# Altium footprint library IC_Texas_Instruments_SN74HC595BRWNR_eec_IPC_B.PcbLib: 1 footprints
Each footprint in its own frame and in the unit in brackets; x right, y up, seen from the top. Pads: shape width x height; smd on the part's side, far side on the other; paste and mask are expansions set on the pad; w line width, h text height; cw(c..) or ccw(c..) is an arc to the next point about the centre after c.
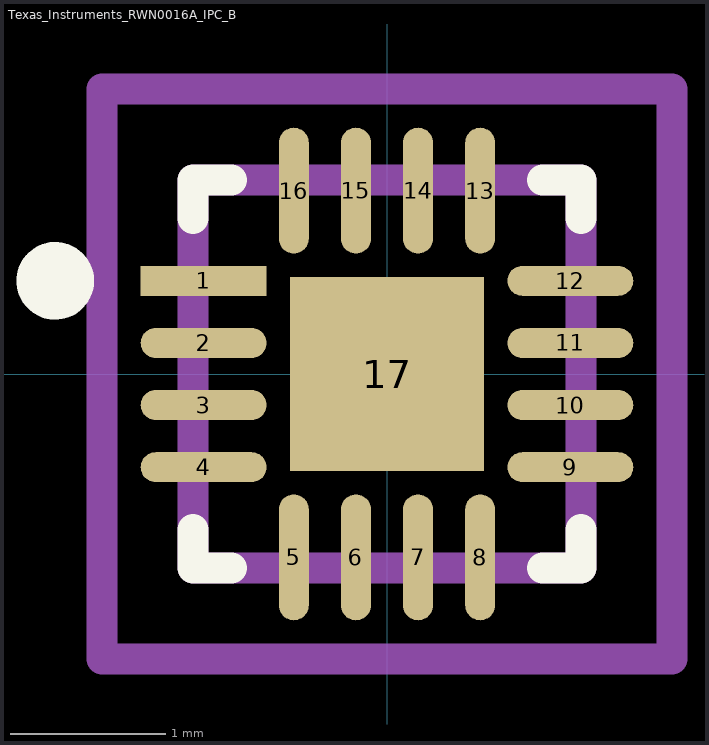
[diagram p0: the footprint, top view; thin cyan lines are the x and y axes]

## Texas_Instruments_RWN0016A_IPC_B [mm]
pads (17):
  rect 0.811x0.192 smd paste+0 mask+0: 1(-1.181,0.6)
  rrect100% 0.811x0.192 smd paste+0 mask+0: 2(-1.181,0.2) 3(-1.181,-0.2) 4(-1.181,-0.6) 9(1.181,-0.6) 10(1.181,-0.2) 11(1.181,0.2) 12(1.181,0.6)
  rrect100% 0.192x0.811 smd paste+0 mask+0: 5(-0.6,-1.181) 6(-0.2,-1.181) 7(0.2,-1.181) 8(0.6,-1.181) 13(0.6,1.181) 14(0.2,1.181) 15(-0.2,1.181) 16(-0.6,1.181)
  rect 1.25x1.25 smd paste-1000 mask+0: 17(0,0)
Top Overlay:
  circle w0.25: c-2.136,0.6 r0.125
  lines w0.2: -1.25,-1 -1.25,-1.25 -1,-1.25 ; -1.25,1 -1.25,1.25 -1,1.25 ; 1,-1.25 1.25,-1.25 1.25,-1 ; 1,1.25 1.25,1.25 1.25,1
Top Paste:
  rectangle: -0.395,-0.395 0.395,0.395
Mechanical 10:
  lines w0.2: -1.836,-1.836 1.836,-1.836 1.836,1.836 -1.836,1.836 -1.836,-1.836
  text ".Designator" at 0,0.188 h1
Mechanical 12:
  lines w0.2: -1.25,-1.25 1.25,-1.25 1.25,1.25 -1.25,1.25 -1.25,-1.25
Mechanical 15:
  lines w0.1: -0.5,0 0.5,0 ; 0,-0.5 0,0.5
  lines w0.2: -1.836,-1.836 1.836,-1.836 1.836,1.836 -1.836,1.836 -1.836,-1.836
3D body "IC_Texas_Instruments_SN74HC595BRWNR_eec.STEP": height 0.25, standoff 0, extent -1.836,-1.836 1.836,1.836